# Altium schematic symbol library MyCompLib.SchLib: 229 symbols (part 2 of 2)
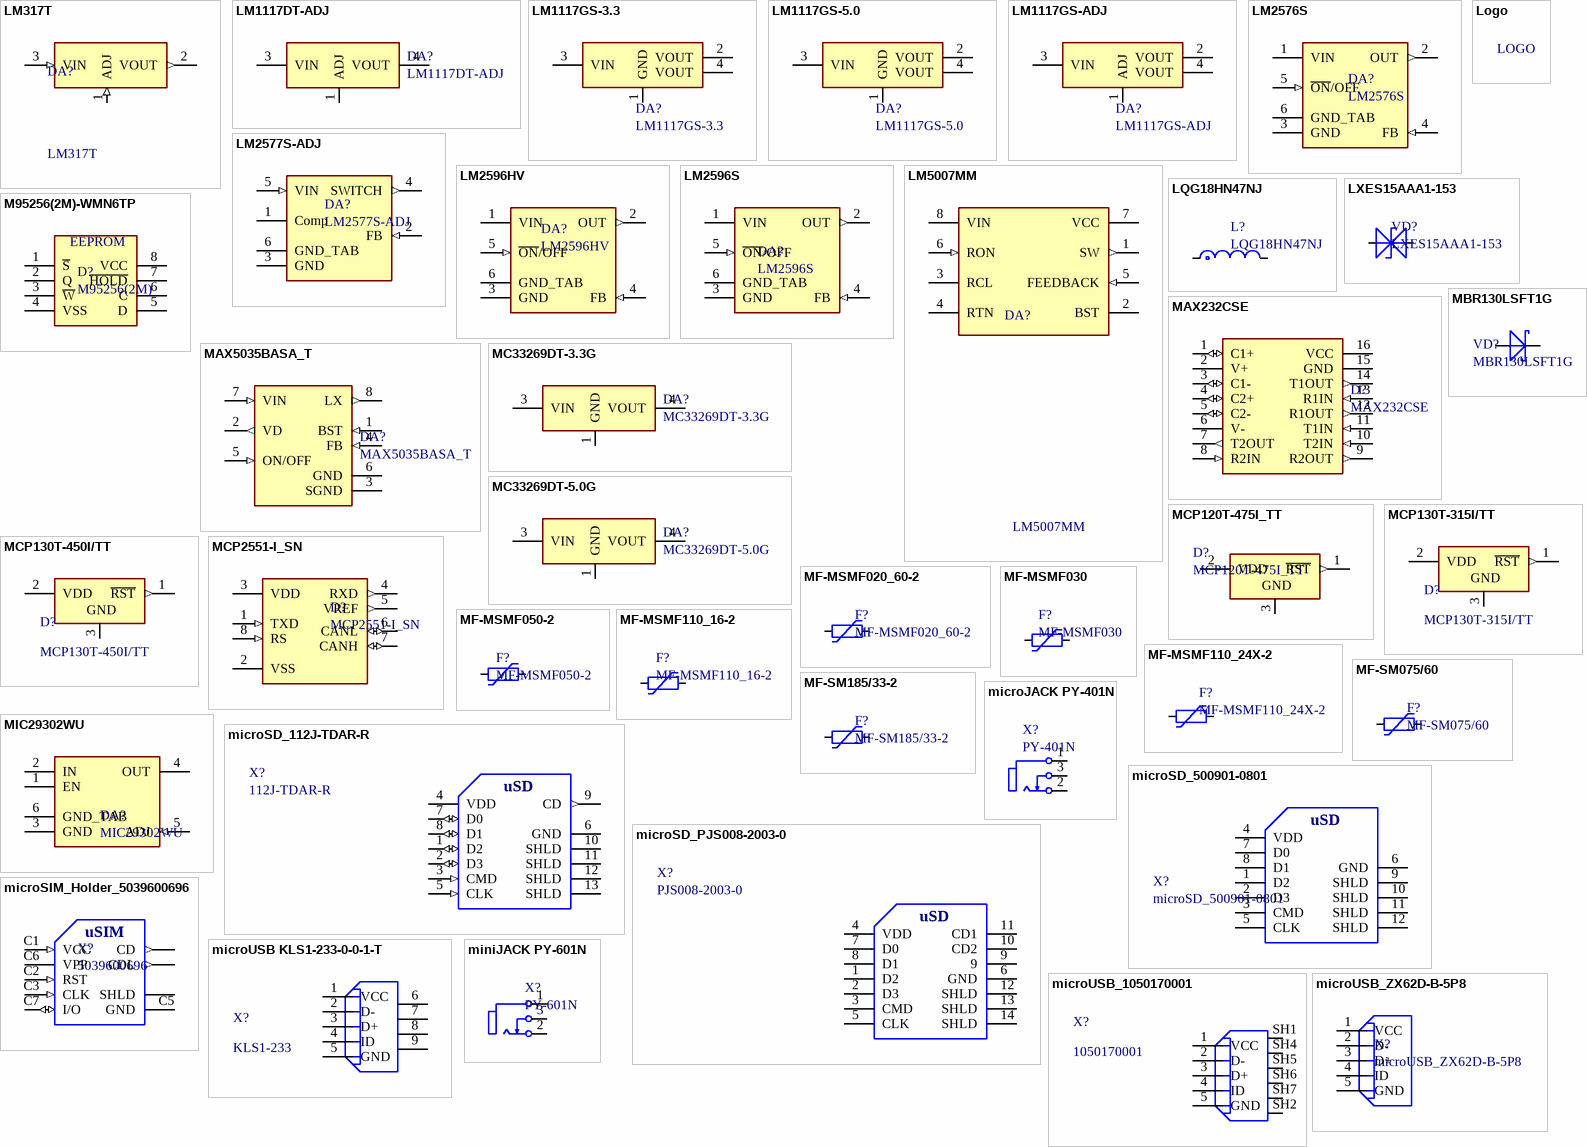
[diagram p6: symbols LM317T to miniJACK PY-601N]

## MIC29302WU
designator DA?
3A Fast Response LDO Regulator / Operating Input Voltage Range: 3V to 16V / 1.24V to 15V Adjustable Output Voltage; ComponentLink1Description: elitan; ComponentLink1URL: https://www.elitan.ru/price/item637427; ComponentLink2Description: chipdip; ComponentLink2URL: https://www.chipdip.ru/product0/8000649332; ComponentLink3Description: electronshik; ComponentLink3URL: https://www.electronshik.ru/item/MCRCH/MIC29302WU
footprint TO263-5 (D2PAK)
footprint TO263-5 - heatsink (D2PAK)
pins: 1 EN (power), 2 IN (power), 3 GND, 4 OUT (power), 5 ADJ (in), 6 GND_TAB

## microJACK PY-401N
designator X?, comment PY-401N
Гнездо моно 2.5мм; ComponentLink1Description: elitan; ComponentLink1URL: https://www.elitan.ru/price/index.php?find=PY-401N&delay=-1&mfg=all&seenform=y; ComponentLink2Description: chipdip; ComponentLink2URL: https://www.chipdip.ru/product/py-401n
footprint PY-401N (2.5mm mono jack)
footprint PY-401N - compact (2.5mm mono jack)
pins: 1, 2, 3

## microSD_112J-TDAR-R
designator X?, comment 112J-TDAR-R
Разъем: для карт памяти; SD Micro; push-push; SMT; позолота; Manufacturer_Name: ATTEND; Datasheet Link: https://sds.compel.ru/item-pdf/04106748b1d2c9285eaa335c34b51c16/ps/attend~112j-tdar-r.pdf; Height: 1mm; Manufacturer_Part_Number: 112J-TDAR-R; ComponentLink1Description: chipdir; ComponentLink1URL: https://www.chipdip.ru/product0/8002703228; ComponentLink2Description: elitan; ComponentLink2URL: https://www.elitan.ru/price/item10898530; ComponentLink3Description: pdf; ComponentLink3URL: https://sds.compel.ru/item-pdf/04106748b1d2c9285eaa335c34b51c16/ps/attend~112j-tdar-r.pdf
footprint 112JTDARR
pins: 1 D2 (io), 2 D3 (io), 3 CMD (in), 4 VDD, 5 CLK (in), 6 GND, 7 D0 (io), 8 D1 (io), 9 CD (out), 10 SHLD, 11 SHLD, 12 SHLD, 13 SHLD
text: uSD

## microSD_500901-0801
designator X?
TransFlash Memory Card,1.1mm hinge type TransFlash Memory Card,1.1mm hinge type
footprint 5009001-0801
pins: 1 D2, 2 D3, 3 CMD, 4 VDD, 5 CLK, 6 GND, 7 D0, 8 D1, 9 SHLD, 10 SHLD, 11 SHLD, 12 SHLD
text: uSD

## microSD_PJS008-2003-0
designator X?, comment PJS008-2003-0
Memory Card Connectors MicroSD Card Conn Revrs Mnt Push-Push
footprint PSJ008-2003-0
pins: 1 D2, 2 D3, 3 CMD, 4 VDD, 5 CLK, 6 GND, 7 D0, 8 D1, 9, 10 CD2, 11 CD1, 12 SHLD, 13 SHLD, 14 SHLD
text: uSD

## microSIM_Holder_5039600696
designator X?, comment 5039600696
Соединители для карт памяти 1mm microSIM Push Push SMT; ComponentLink1Description: elitan; ComponentLink1URL: https://www.elitan.ru/price/item12310026
footprint MOLEX_uSIM_5039600696
pins: C1 VCC (in), C2 RST (in), C3 CLK (in), C5 GND, C6 VPP, C7 I/O (io), CD (out) "Detect switch", CDL (out), SHLD
text: uSIM

## microUSB KLS1-233-0-0-1-T
designator X?, comment KLS1-233
Micro USB 5S-B connector
footprint KLS1233
pins: 1 VCC (power), 2 D-, 3 D+, 4 ID, 5 GND (power), 6 SHIELD, 7 SHIELD, 8 SHIELD, 9 SHIELD

## microUSB_1050170001
designator X?, comment 1050170001
USB - micro B USB 2.0 Receptacle Connector 5 Position Surface Mount, Right Angle; Through Hole; MF: Molex; Digi-Key_Purchase_URL: https://www.digikey.com/product-detail/en/molex/1050170001/WM1399CT-ND/2350885?utm_source=snapeda&utm_medium=aggregator&utm_campaign=symbol; Digi-Key_Part_Number: WM1399CT-ND; Package: None; SnapEDA_Link: https://www.snapeda.com/parts/1050170001/Molex/view-part/2755530/?ref=snap; MP: 1050170001; Value: *; ComponentLink1Description: elitan; ComponentLink1URL: https://www.elitan.ru/price/item5116026; ComponentLink2Description: chipdip; ComponentLink2URL: https://www.chipdip.ru/product/105017-0001-molex?utm_source=google&utm_medium=cpc&position_type={position_type}|k50id|pla-293946777986|cid|11945324864|aid|488785225626|gid|115765259517&utm_campaign=G_tovarnieobjavlenija&utm_content=text1_ga&utm_term=
footprint MOLEX_1050170001
footprint MOLEX_1050170001 - compact
pins: 1 VCC (power), 2 D-, 3 D+, 4 ID, 5 GND (power), SH1 SHIELD, SH2 SHIELD, SH4 SHIELD, SH5 SHIELD, SH6 SHIELD, SH7 SHIELD

## microUSB_ZX62D-B-5P8
designator X?
SMD+DIP Micro USB; MICRO-B-SMD
footprint ZX62D-8-5P8
pins: 1 VCC (power), 2 D-, 3 D+, 4 ID, 5 GND (power)

## miniJACK PY-601N
designator X?, comment PY-601N
Аудио гнездо (М) 3.5мм; ComponentLink1Description: chipdip; ComponentLink1URL: https://www.chipdip.ru/product/py-601n?from=suggest_product; ComponentLink2Description: elitan; ComponentLink2URL: https://www.elitan.ru/price/index.php?find=PY-601N&delay=-1&mfg=all&seenform=y
footprint PY-601N (miniJACK 3.5mm)
footprint PY-601N - compact (miniJACK 3.5mm)
pins: 1, 2, 3

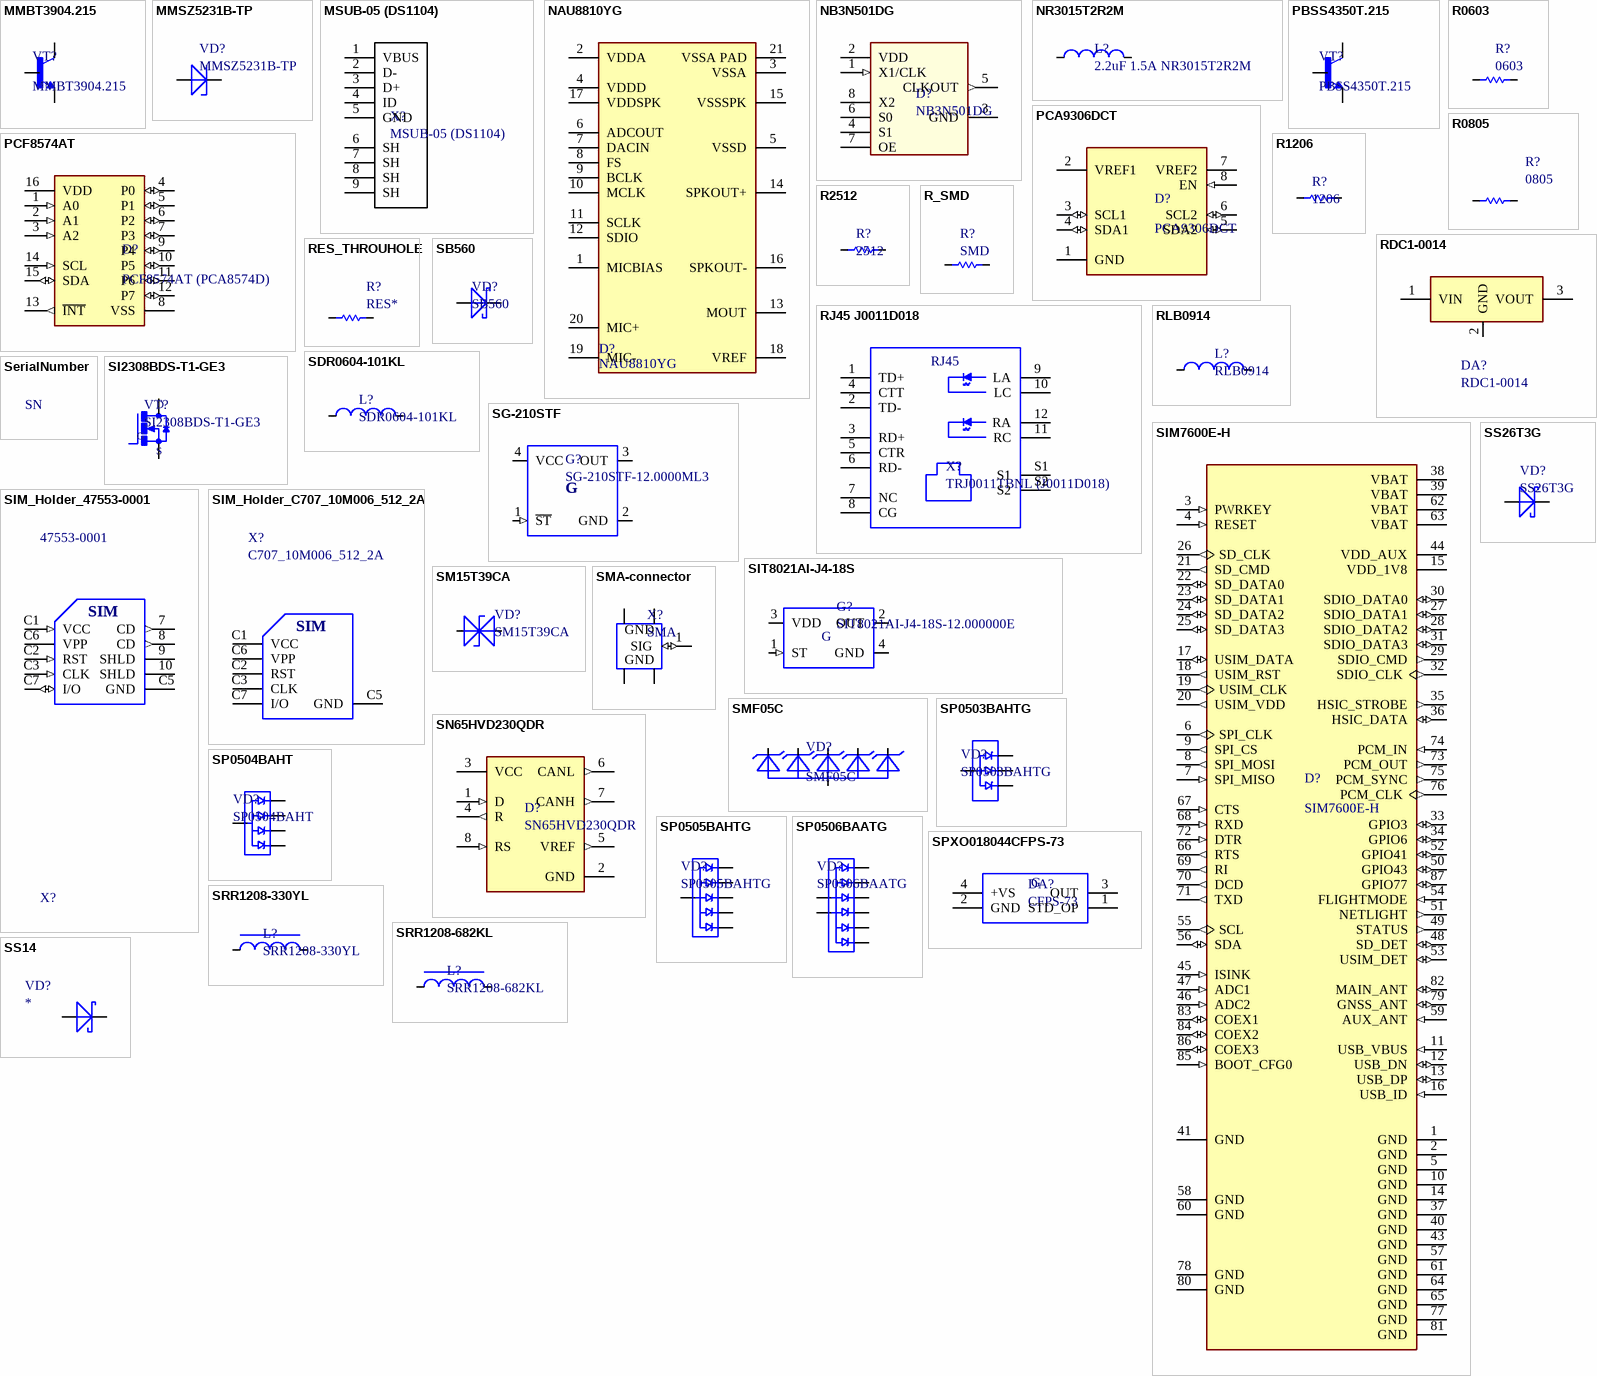
[diagram p4: symbols MMBT3904.215 to SS26T3G]

## MMBT3904.215
designator VT?
Транзистор NPN 40В 0.2А [SOT-23-3]
footprint SOT23
pins: B, C, E

## MMSZ5231B-TP
designator VD?
Стабилитрон 5.1В, 5%, 0.5Вт, [SOD-123]; ComponentLink1Description: chipdip; ComponentLink1URL: https://www.chipdip.ru/product/mmsz5231b-tp?from=suggest_product; ComponentLink2Description: elitan; ComponentLink2URL: https://www.elitan.ru/price/item685173
footprint SOD-123_3716X135N
pins: A POS, C NEG

## MSUB-05 (DS1104)
designator X?
Conn Mini USB 2.0 Type B RCP 5 POS 0.8mm Solder RA SMD 5 Terminal 1 Port Tray
footprint MUSB-05-S-B-SM
pins: 1 VBUS, 2 D-, 3 D+, 4 ID, 5 GND, 6 SH, 7 SH, 8 SH, 9 SH

## NAU8810YG
designator D?
AUDIO CODEC MONO 20QFN; Manufacturer: Nuvoton Technology Corporation; Voltage: 3.6V; helpURL: https://upverter.com/upn/revision/eec1ccdac07fe113/; ComponentLink2Description: Datasheet; Temperature: -40°C to +85°C; Package: QFN20; Supplier 2: Mouser; Supplier 1: Digi-Key; ComponentLink1URL: https://upverter.com/upn/revision/eec1ccdac07fe113/; Supplier Part Number 1: NAU8810YG-ND; ComponentLink1Description: Upverter; ComponentLink2URL: http://www.nuvoton.com/hq/resource-download.jsp?tp_GUID=DA00-NAU8810.1; RoHS: TRUE; Ipc Land Pattern Name: QFN50P400X400X75-20; Temperature Range High: +85°C; Digikey Description: IC AUDIO CODEC MONO 20QFN; Digikey Part Number: NAU8810YG-ND; Lead Free: yes; Temperature Range Low: -40°C; ComponentLink3Description: elitan; ComponentLink3URL: https://www.elitan.ru/price/index.php?find=NAU8810YG&delay=-1&mfg=all&seenform=y
footprint NAU8810YG
pins: 1 MICBIAS, 2 VDDA, 3 VSSA, 4 VDDD, 5 VSSD, 6 ADCOUT, 7 DACIN, 8 FS, 9 BCLK, 10 MCLK, 11 SCLK, 12 SDIO, 13 MOUT, 14 SPKOUT+, 15 VSSSPK, 16 SPKOUT-, 17 VDDSPK, 18 VREF, 19 MIC-, 20 MIC+, 21 VSSA PAD

## NB3N501DG
designator D?
PLL Clock Multiplier Single 8-Pin SOIC 3 V ~ 5.25 V; ComponentLink1Description: elitan; ComponentLink1URL: https://www.elitan.ru/price/item9787428; ComponentLink2Description: electronshik; ComponentLink2URL: https://www.electronshik.ru/item/ONS/NB3N501DG
footprint SOIC8 (SO-8)
pins: 1 X1/CLK (in), 2 VDD, 3 GND, 4 S1 (power), 5 CLKOUT (out), 6 S0, 7 OE, 8 X2 (power)

## NR3015T2R2M
designator L?, comment 2.2uF 1.5A NR3015T2R2M
Катушки постоянной индуктивности 3015 2.2uH 72mOhms +/-20% 1480mA LwPrfl
footprint NR3015
pins: 1, 2

## PBSS4350T.215
designator VT?
Транзистор NPN 50В 2А 0.48Вт [SOT-23-3]; ComponentLink1Description: chipdip; ComponentLink1URL: https://www.chipdip.ru/product/pbss4350t.215; ComponentLink2Description: elitan; ComponentLink2URL: https://www.elitan.ru/price/item449708; ComponentLink3Description: electronshik; ComponentLink3URL: https://www.electronshik.ru/item/NEX-NXP/PBSS4350T.215
footprint SOT23
footprint SOT23-3
pins: 1 B, 2 E, 3 C

## PCA9306DCT
designator D?
Voltage Level Translator Bidirectional 1 Circuit 2 Channel SM8 _SSOP_; MF: Texas Instruments; Value: *; MP: PCA9306DCT; Package: LSSOP-8 Texas Instruments; Price: None; Availability: Unavailable; SnapEDA_Link: https://www.snapeda.com/parts/PCA9306DCT/Texas%20Instruments/view-part/1232375/?ref=snap; ComponentLink1Description: elitan; ComponentLink1URL: https://www.elitan.ru/price/item578140; ComponentLink2Description: chipdip; ComponentLink2URL: https://www.chipdip.ru/product/pca9306dctr
footprint SOP65P400X130-8N
pins: 1 GND, 2 VREF1 (power), 3 SCL1 (io), 4 SDA1 (io), 5 SDA2 (io), 6 SCL2 (io), 7 VREF2 (power), 8 EN (in)

## PCF8574AT
designator D?, comment PCF8574AT (PCA8574D)
8-bit I/O expander for I2C bus with interrupt / PCF8574(A)T/3 - 100kHz version / PCA8574(A)D - 400kHz version; MF: NXP Semiconductors; Value: *; SnapEDA_Link: https://www.snapeda.com/parts/PCF8574AT/NXP%20Semiconductors/view-part/4220694/?ref=snap; Price: None; Availability: Unavailable; Package: None; MP: PCF8574AT; ComponentLink1Description: elitan; ComponentLink1URL: https://www.elitan.ru/price/item981552; ComponentLink2Description: elitan - pca8574D; ComponentLink2URL: https://www.elitan.ru/price/item537810; ComponentLink3Description: el-pca; ComponentLink3URL: https://www.electronshik.ru/item/NXP/PCA8574D.518; ComponentLink4Description: electronshik; ComponentLink4URL: https://www.electronshik.ru/item/NXP/PCF8574T%3A%3A3.518; ComponentLink5Description: el; ComponentLink5URL: https://www.electronshik.ru/item/NXP/PCF8574AT%3A%3A3.518
footprint SOIC127P1032X265-16N
pins: 1 A0 (in), 2 A1 (in), 3 A2 (in), 4 P0 (io), 5 P1 (io), 6 P2 (io), 7 P3 (io), 8 VSS, 9 P4 (io), 10 P5 (io), 11 P6 (io), 12 P7 (io), 13 ~{INT} (out), 14 SCL (in), 15 SDA (io), 16 VDD (power)

## R0603
designator R?, comment 0603
SMD Res 0603
footprint R_SMD0603
pins: 1 CCW, 2 CW

## R0805
designator R?, comment 0805
SMD Res 0805
footprint R_SMD0805
pins: 1 CCW, 2 CW

## R1206
designator R?, comment 1206
SMD Res 1206
footprint R_SMD1206
pins: 1 CCW, 2 CW

## R2512
designator R?, comment 2512
SMD Res 2512
footprint R_SMD2512
pins: 1 CCW, 2 CW

## R_SMD
designator R?, comment SMD
SMD Resistor
footprint R_SMD0603
footprint R_SMD0402
footprint R_SMD0805
footprint R_SMD1206
footprint R_SMD1812
footprint R_SMD2512
footprint R_SMD1210 (0.5W)
pins: 1 CCW, 2 CW

## RDC1-0014
designator DA?
Встраиваемый DC/DC преобразователь 60В 3А
footprint RDC1-0014 (DC-DC BUCK 60V)
pins: 1 VIN, 2 GND, 3 VOUT

## RES_THROUHOLE
designator R?, comment RES*
Throu hole resistor
footprint THROU_HOLE2.54
pins: 1 CCW, 2 CW

## RJ45 J0011D018
designator X?, comment TRJ0011TBNL (J0011D018)
Conn RJ-45 F 8 POS 2.54mm Solder RA Thru-Hole 12 Terminal 1 Port Cat 5/Cat 6
footprint J0011D018
pins: 1 TD+, 2 TD-, 3 RD+, 4 CTT, 5 CTR, 6 RD-, 7 NC, 8 CG, 9 LA, 10 LC, 11 RC, 12 RA, S1, S2
text: RJ45

## RLB0914
designator L?
Радиальные выводные индуктивности / Диапазон рабочих температур –20 °С… +80 °С. / Рост температуры в процессе эксплуатации, не более 20 °С. / Диапазон индуктивностей 1 - 82000 мкГ
footprint RLB0914
pins: 1, 2

## SB560
designator VD?
Диод Шоттки 5A 60V [DO-201AD]
footprint DO-201AD
footprint DO-201AD_short
pins: 1 POS, 2 NEG

## SDR0604-101KL
designator L?
Bourns SDR0604 Series Wire-wound SMD Inductor with a Ferrite Core, 100 H 10% 0.68A Idc Q:20
footprint SDR0604
pins: 1, 2

## SerialNumber
designator N?, comment SN  (value not drawn)
Board Serial Number Placement
footprint KZTA_SN (Serial Number Placement)

## SG-210STF
designator G?, comment SG-210STF-12.0000ML3
Oscillator XO 12MHz ±50ppm 15pF CMOS 55% 1.8V; ComponentLink1Description: elitan; ComponentLink1URL: https://www.elitan.ru/price/item16272023
footprint SG210STF120000ML3
pins: 1 ~{ST} (in), 2 GND, 3 OUT, 4 VCC
text: G

## SI2308BDS-T1-GE3
designator VT?
MOSFET, N-канал 60В 1.9А [SOT-23]; ComponentLink1Description: chipdip; ComponentLink1URL: https://www.chipdip.ru/product/si2308bds-t1-ge3-vishay; ComponentLink2Description: electronshik; ComponentLink2URL: https://www.electronshik.ru/item/VISHAY/SI2308BDS-T1-GE3; ComponentLink3Description: elitan; ComponentLink3URL: https://www.elitan.ru/price/item668096
footprint SOT23
footprint SOT23-3
pins: 1 G, 2 S, 3 D

## SIM7600E-H
designator D?
Multi-Band LTE-TDD/LTE-FDD/HSPA+ and GSM/GPRS/EDGE module; MF: Simcom; MP: SIM7600E-H; Availability: Unavailable; Package: None; Value: *; Price: None; SnapEDA_Link: https://www.snapeda.com/parts/SIM7600E-H/SIMcom%20Wireless%20solutions%20Co.%2CLtd/view-part/2758290/?ref=snap; ComponentLink1Description: mt-systems; ComponentLink1URL: http://www.mt-system.ru/SIMCom/SIM7600E-H
footprint IC_SIM7600E-H
pins: 1 GND (power), 2 GND (power), 3 PWRKEY (in), 4 RESET (in), 5 GND (power), 6 SPI_CLK (out), 7 SPI_MISO (in), 8 SPI_MOSI (out), 9 SPI_CS (out), 10 GND (power), 11 USB_VBUS (in), 12 USB_DN (io), 13 USB_DP (io), 14 GND (power), 15 VDD_1V8 (power), 16 USB_ID (in), 17 USIM_DATA (io), 18 USIM_RST (out), 19 USIM_CLK (out), 20 USIM_VDD (out), 21 SD_CMD (out), 22 SD_DATA0 (io), 23 SD_DATA1 (io), 24 SD_DATA2 (io), 25 SD_DATA3 (io), 26 SD_CLK (out), 27 SDIO_DATA1 (io), 28 SDIO_DATA2 (io), 29 SDIO_CMD (out), 30 SDIO_DATA0 (io), 31 SDIO_DATA3 (io), 32 SDIO_CLK (out), 33 GPIO3 (io), 34 GPIO6 (io), 35 HSIC_STROBE (out), 36 HSIC_DATA (io), 37 GND (power), 38 VBAT (power), 39 VBAT (power), 40 GND (power), 41 GND (power), 43 GND (power), 44 VDD_AUX (power), 45 ISINK (in), 46 ADC2 (in), 47 ADC1 (in), 48 SD_DET (io), 49 STATUS (out), 50 GPIO43 (io), 51 NETLIGHT (out), 52 GPIO41 (io), 53 USIM_DET (io), 54 FLIGHTMODE (in), 55 SCL (out), 56 SDA (io), 57 GND (power), 58 GND (power), 59 AUX_ANT (in), 60 GND (power), 61 GND (power), 62 VBAT (power), 63 VBAT (power), 64 GND (power), 65 GND (power), 66 RTS (out), 67 CTS (in), 68 RXD (in), 69 RI (out), 70 DCD (out), 71 TXD (out), 72 DTR (in), 73 PCM_OUT (out), 74 PCM_IN (in), 75 PCM_SYNC (out), 76 PCM_CLK (out), 77 GND (power), 78 GND (power), 79 GNSS_ANT (io), 80 GND (power), 81 GND (power), 82 MAIN_ANT (io), 83 COEX1 (io), 84 COEX2 (io), 85 BOOT_CFG0 (in), 86 COEX3 (io), 87 GPIO77 (io)

## SIM_Holder_47553-0001
designator X?, comment 47553-0001
1.27mm Pitch SIM Card Holder with 2 Detect Pins, 6 Circuits, Push-Push Style, / Housing Height 1.80mm, without Pegs, Lead-Free; ComponentLink1Description: Info; ComponentLink1URL: https://www.molex.com/molex/products/part-detail/memory_card_socket/0475530001; ComponentLink2Description: elitan; ComponentLink2URL: https://www.elitan.ru/price/item5698087; ComponentLink3Description: pdf; ComponentLink3URL: https://www.molex.com/pdm_docs/sd/475530001_sd.pdf
footprint Molex_47553-0001_SIM
pins: 7 CD (out), 8 CD (out), 9 SHLD, 10 SHLD, C1 VCC (in), C2 RST (in), C3 CLK (in), C5 GND, C6 VPP, C7 I/O (io)
text: SIM

## SIM_Holder_C707_10M006_512_2A
designator X?, comment C707_10M006_512_2A
Соединители для карт памяти sim block/2.8H/Wide Solder Tails; Manufacturer_Name: Amphenol MCP; Manufacturer_Part_Number: C707 10M006 512 2A; Datasheet Link: https://static6.arrow.com/aropdfconversion/2b0439812a4dc18aefbbc0c69113f67e39d5f040/cardrsiml.pdf; Height: 2.5mm; ComponentLink1Description: elitan; ComponentLink1URL: https://www.elitan.ru/price/item13360290
footprint C70710M0065122A
pins: C1 VCC, C2 RST, C3 CLK, C5 GND, C6 VPP, C7 I/O
text: SIM

## SIT8021AI-J4-18S
designator G?, comment SIT8021AI-J4-18S-12.000000E
12MHz В±100ppm (Stability) 15pF LVCMOS 55% 1.8V Oscillator MEMS; ComponentLink1Description: elitan; ComponentLink1URL: https://www.elitan.ru/price/item12605258
footprint BGA4N41X100P2X2_84X154X60N
pins: 1 ST (in), 2 OUT, 3 VDD, 4 GND
text: G

## SM15T39CA
designator VD?
TVS Diode Bi-Directional SM15T39CA 69.7V, 1500W, SMC 2-Pin; ComponentLink1Description: chipdip; ComponentLink1URL: https://www.chipdip.ru/product/sm15t39ca?from=suggest_product; ComponentLink2Description: elitan; ComponentLink2URL: https://www.elitan.ru/price/item636974
footprint DO214AB SMC
pins: 1 A, 2 K

## SMA-connector
designator X?, comment SMA
Molex-0731000114 - FEMALE-RA / Molex-0733910060 - FEMALE / L-KLS1-SMA015  - MALE-RA / L-KLS1-SMA006 - FEMALE-RA / L-KLS1-SMA002-B  - FEMALE-RA; ComponentLink1Description: RA-Molex-0731000114; ComponentLink1URL: https://www.elitan.ru/price/item639782; ComponentLink2Description: RA-L-KLS1-SMA015; ComponentLink2URL: https://www.elitan.ru/price/item15217386; ComponentLink3Description: RA - HYR-1141; ComponentLink3URL: https://www.elitan.ru/price/item12599392; ComponentLink4Description: Molex-0733910060; ComponentLink4URL: https://www.elitan.ru/price/item715759; ComponentLink5Description: FEMALE-RA-KLS1-SMA006; ComponentLink5URL: https://www.elitan.ru/price/item18597090; ComponentLink6Description: FEMALE-RA - L-KLS1-SMA002-B; ComponentLink6URL: https://www.platan.ru/cgi-bin/qwery.pl/id=356964102; ComponentLink7Description: FEMALE-RA - L-KLS1-SMA002; ComponentLink7URL: https://www.elitan.ru/price/item9893558
footprint SMA-FEMALE-RA - L-KLS1-SMA002-B (SMA connector)
footprint SMA-FEMALE-RA-Molex-0731000114 (SMA connector)
footprint SMA-FEMALE_Molex -73391-0060 (SMA connector)
footprint SMA-MALE (SMA connector)
footprint SMA-MALE-RA-L-KLS1-SMA015 (SMA connector)
pins: 1 SIG (io), G GND (power), G GND (power), G GND (power), G GND (power)

## SMF05C
designator VD?
12.5V Clamp 8A _8/20µs_ Ipp Tvs Diode Surface Mount SC-88/SC70-6/SOT-363; MF: ON Semiconductor; Availability: Unavailable; Price: None; Package: SOT-363 ON Semiconductor; Value: *; SnapEDA_Link: https://www.snapeda.com/parts/SMF05C/ON%20Semiconductor/view-part/2782704/?ref=snap; MP: SMF05C; ComponentLink1Description: elitan; ComponentLink1URL: https://www.elitan.ru/price/item10155001; ComponentLink2Description: chipdip; ComponentLink2URL: https://www.chipdip.ru/product/smf05ct1g?from=suggest_product
footprint SMF05C
pins: 1 C1, 2 A, 3 C2, 4 C3, 5 C4, 6 C5

## SN65HVD230QDR
designator D?
3.3-V CAN Transceiver with Standby Mode 8-SOIC -40 to 125
footprint SOIC8 (SO-8)
pins: 1 D (in), 2 GND (power), 3 VCC (power), 4 R (out), 5 VREF (out), 6 CANL (out), 7 CANH (out), 8 RS (in)

## SP0503BAHTG
designator VD?
TVS Diode-3 Рабочее напряжение 5.5 В / Максимальное напряжение фиксации 8.5 в; ComponentLink1Description: chipdip; ComponentLink1URL: https://www.chipdip.ru/product/sp0503bahtg; ComponentLink2Description: elitan; ComponentLink2URL: https://www.elitan.ru/price/item393293
footprint SP0503BAHTG
pins: 1 GND, 2 A, 3 B, 4 C

## SP0504BAHT
designator VD?
TVS Diode-4 Рабочее напряжение 5.5 V / Напряжение фиксации 7.8 V; ComponentLink1Description: elitan; ComponentLink1URL: https://www.elitan.ru/price/item638468; ComponentLink2Description: chipdip; ComponentLink2URL: https://www.chipdip.ru/product0/8001776844
footprint SOT23-5
pins: 1, 2 GND, 3 C, 4 B, 5

## SP0505BAHTG
designator VD?
TVS Diode-5 5.5V(R) 9. 9.2V-CLAMP1.2A 5-CH; ComponentLink1Description: chipdip; ComponentLink1URL: https://www.chipdip.ru/product0/8001790471; ComponentLink2Description: elitan; ComponentLink2URL: https://www.elitan.ru/price/item559578
footprint SOT23-6-S
pins: 1 A, 2 GND, 3 C, 4 B, 5 C, 6 D

## SP0506BAATG
designator VD?
TVS Diode-6 Clamping Voltage Vc Max:8V; MSOP8, Operating Voltage:5.5V;; ComponentLink1Description: elitan; ComponentLink1URL: https://www.elitan.ru/price/item559579; ComponentLink2Description: chipdip; ComponentLink2URL: https://www.chipdip.ru/product0/8004936449
footprint SOP65P490X110-8N
pins: 1 GND, 2 A, 3 C, 4 B, 5 D, 6 B, 7 D, 8 GND

## SPXO018044CFPS-73
designator DA?, comment CFPS-73
50 MHZ - 3.3V Generator; ComponentLink1Description: elitan; ComponentLink1URL: https://www.elitan.ru/price/item13019539
footprint CFPS-73
pins: 1 STD_OP, 2 GND, 3 OUT, 4 +VS
text: G

## SRR1208-330YL
designator L?
SMD индуктивность проволочная, на ферритовом сердечнике, экранированная 33uH 15% 1KHz 23Q-Factor Ferrite 2.8A 62mOhm; ComponentLink1Description: 33uH-chipdip; ComponentLink1URL: https://www.chipdip.ru/product/srr1208-330yl?from=suggest_product; ComponentLink2Description: 33uH-elitan; ComponentLink2URL: https://www.elitan.ru/price/item319349; ComponentLink3Description: 100uH-elitan; ComponentLink3URL: https://www.elitan.ru/price/item319348; ComponentLink4Description: 100uH-chipdip; ComponentLink4URL: https://www.chipdip.ru/product/srr1208-101yl; ComponentLink5Description: 22uH-3.5A-elitan; ComponentLink5URL: https://www.elitan.ru/price/item437369
footprint SRR1208
pins: 1, 2

## SRR1208-682KL
designator L?
Fixed Inductors 6800uH 10% SMD 1208
footprint SRR1208
pins: 1, 2

## SS14
designator VD?
Диод Шоттки 1A 40В [SMA / DO-214AC]; Manufacturer_Name: ON Semiconductor; Manufacturer_Part_Number: SS14; Datasheet Link: http://www.onsemi.com/pub/Collateral/SS19-D.pdf; Height: 2.7mm; Arrow Part Number: SS14; Arrow Price/Stock: https://www.arrow.com/en/products/ss14/on-semiconductor; Mouser Part Number: 512-SS14; Mouser Price/Stock: https://www.mouser.co.uk/ProductDetail/ON-Semiconductor-Fairchild/SS14?qs=mVVXn4M53U%252BvrBaFv5vr4w%3D%3D; ComponentLink1Description: chipdip; ComponentLink1URL: https://www.chipdip.ru/product/ss14?from=suggest_product
footprint DO-214AC/SMA
pins: 1 NEG, 2 POS

## SS26T3G
designator VD?
Диод Шоттки 2А 60В [SMB / DO-214AA]; ComponentLink1Description: chipdip; ComponentLink1URL: https://www.chipdip.ru/product/ss26t3g?from=suggest_product; ComponentLink2Description: elitan; ComponentLink2URL: https://www.elitan.ru/price/item421861
footprint DO-214AA
pins: 1 NEG, 2 POS

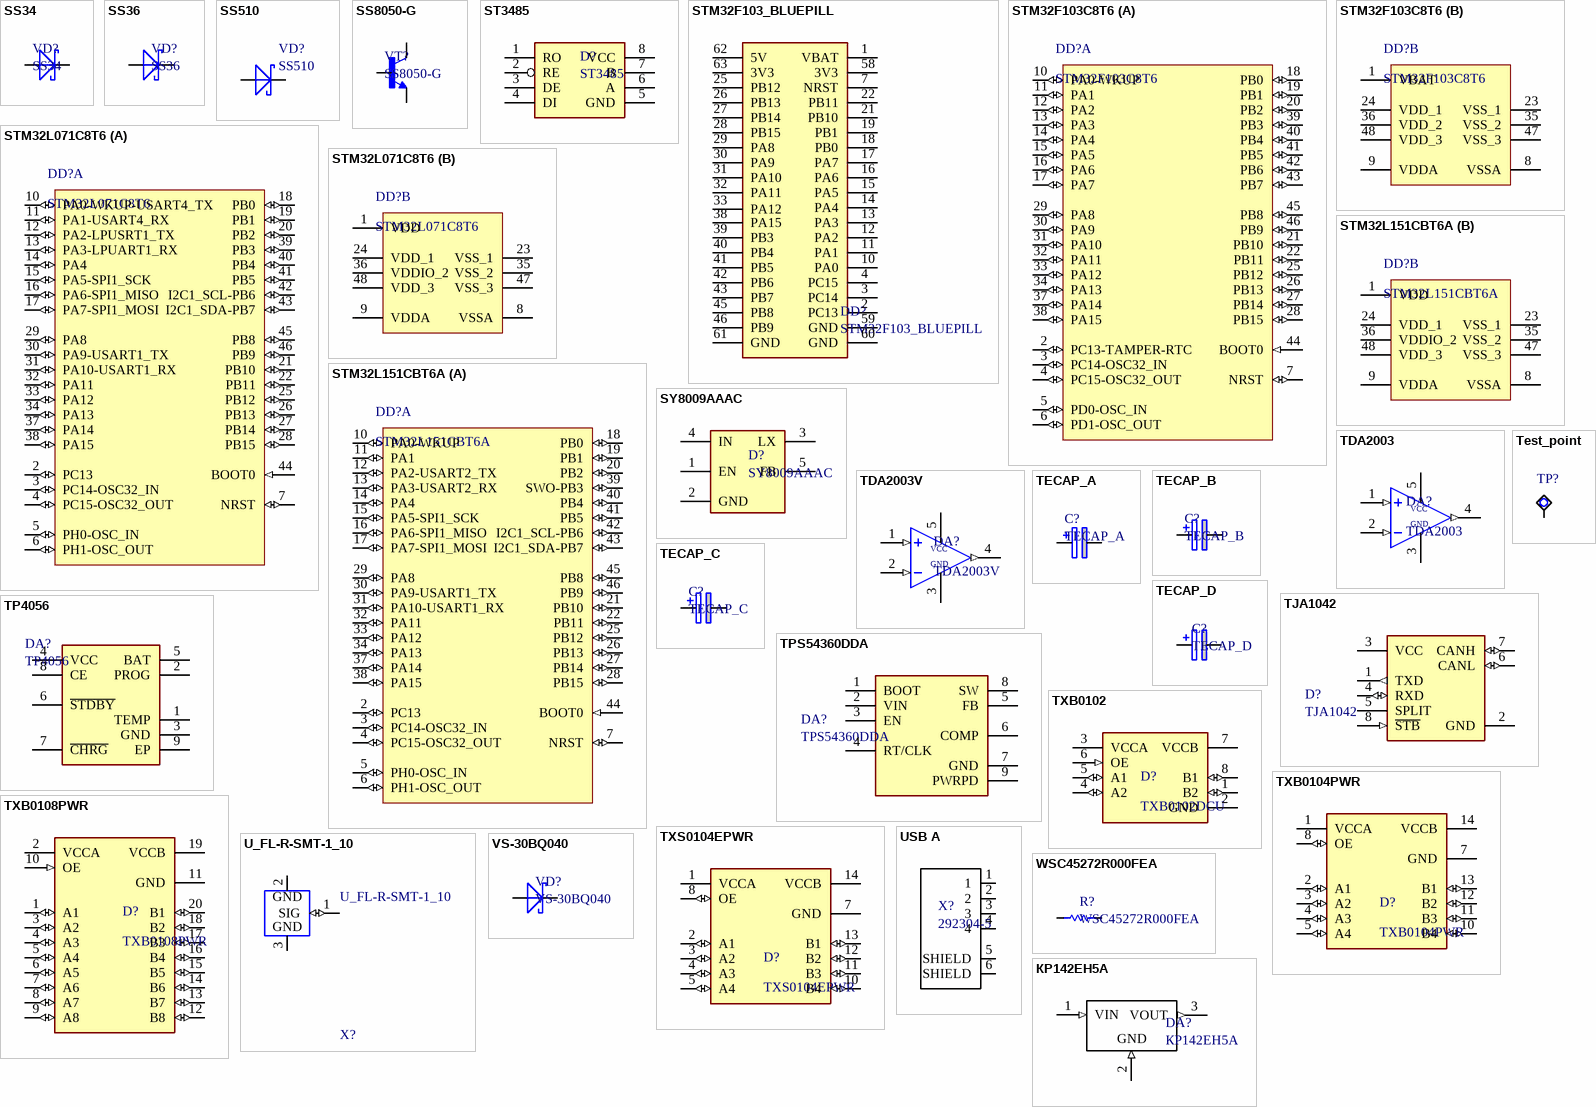
[diagram p5: symbols SS34 to КР142ЕН5А]

## SS34
designator VD?
Schottky; DO-214AB; 3.0A IF; 0.75V; 40V; 100A IFRM; 10000V/us; 1000pF; ComponentLink1Description: chipdip; ComponentLink1URL: https://www.chipdip.ru/product/ss34-5; ComponentLink2Description: elitan; ComponentLink2URL: https://www.elitan.ru/price/item9505516
footprint DO214AB SMC
pins: 1 POS, 2 NEG

## SS36
designator VD?
Schottky; DO-214AB; 3.0A IF; 0.75V; 60V; 100A IFRM; 10000V/us; 1000pF; ComponentLink1Description: elitan; ComponentLink1URL: https://www.elitan.ru/price/item15648528; ComponentLink2Description: chipdip; ComponentLink2URL: https://www.chipdip.ru/product/ss36-e3-57t-2?from=suggest_product
footprint DO214AB SMC
pins: 1 POS, 2 NEG

## SS510
designator VD?
Диод Шоттки 5A 100V (SMC); ComponentLink1Description: chipdip; ComponentLink1URL: https://www.chipdip.ru/product0/8002382677?from=suggest_product; ComponentLink2Description: elitan; ComponentLink2URL: https://www.elitan.ru/price/item24826922
footprint SMC
footprint SMAF (Doide)
footprint SMC + SMAF
pins: A POS, C NEG

## SS8050-G
designator VT?
NPN TRANSISTOR 1.5A 40V [ SOT23 ]; ComponentLink1Description: elitan; ComponentLink1URL: https://www.elitan.ru/price/item13521125
footprint SOT23
footprint SOT23-3
pins: 1 B, 2 E, 3 C

## ST3485
designator D?
RS-485 transceiver 3.3 V
footprint SOIC8 (SO-8)
pins: 1 RO, 2 RE, 3 DE, 4 DI (power), 5 GND, 6 A, 7 B, 8 VCC (power)

## STM32F103_BLUEPILL
designator DD?
footprint STM32F103_BLUEPILL
pins: 1 VBAT, 2 PC13, 3 PC14, 4 PC15, 7 NRST, 10 PA0, 11 PA1, 12 PA2, 13 PA3, 14 PA4, 15 PA5, 16 PA6, 17 PA7, 18 PB0, 19 PB1, 21 PB10, 22 PB11, 25 PB12, 26 PB13, 27 PB14, 28 PB15, 29 PA8, 30 PA9, 31 PA10, 32 PA11, 33 PA12, 38 PA15, 39 PB3, 40 PB4, 41 PB5, 42 PB6, 43 PB7, 45 PB8, 46 PB9, 58 3V3, 59 GND, 60 GND, 61 GND, 62 5V, 63 3V3

## STM32F103C8T6
designator DD?
ARM Cortex-M3 32-bit MCU, 64 KB Flash, 20 KB Internal RAM, 37 I/Os, 48-pin LQFP, -40 to 85 degC, Tray; A/D Converter: 2x12-bit (10 Channel); FLASH Size (Prog) (kB): 64; I/Os (High Current): 37; Internal RAM Size (kB): 20; Operating Frequency(F) (Processor speed) (MHz): 72; Supply Voltage(Vcc) min (V): 2; DatasheetVersion: Rev. 16; PackageVersion: Rev. 6, 06/2013; PackageReference: LQFP48; PackageDescription: 48-Pin Low Profile Quad Flat Package, 7 x 7 mm Body, 0.5 mm Pitch; Supplier 1: Digi-Key; Supplier Part Number 1: 497-6063-ND; Supplier 2: Farnell; Supplier Part Number 2: 1447637; Supplier 3: Newark; Supplier Part Number 3: 59M2182; Supplier 4: Newark; Supplier Part Number 4: 57P1222; Supplier 5: Mouser; Supplier Part Number 5: 511-STM32F103C8T6; Core: ARM Cortex-M3; Packing: Tray; Mounting Technology: Surface Mount; PartNumber: STM32F103C8T6; ComponentLink1Description: Manufacturer URL; ComponentLink1URL: http://www.st.com/web/en/home.html; ComponentLink2Description: Datasheet; ComponentLink2URL: http://www.st.com/st-web-ui/static/active/en/resource/technical/document/datasheet/CD00161566.pdf; ComponentLink3Description: Package Specification; ComponentLink3URL: http://www.st.com/st-web-ui/static/active/en/resource/technical/document/datasheet/DM00058181.pdf
footprint LQFP48_L (QFP, 48-Leads, Body 7x7mm, Pitch 0.5mm, IPC High Density)
footprint LQFP48_M (QFP, 48-Leads, Body 7x7mm, Pitch 0.5mm, IPC Low Density)
footprint LQFP48_N (QFP, 48-Leads, Body 7x7mm, Pitch 0.5mm, IPC Medium Density)
part A pins: 2 PC13-TAMPER-RTC (io) "PC13-TAMPER-RTC/PC13/TAMPER-RTC", 3 PC14-OSC32_IN (io) "PC14-OSC32_IN/PC14/OSC32_IN", 4 PC15-OSC32_OUT (io) "PC15-OSC32_OUT/PC15/OSC32_OUT", 5 PD0-OSC_IN (io) "PD0/OSC_IN", 6 PD1-OSC_OUT (io) "PD1/OSC_OUT", 7 NRST (io), 10 PA0-WKUP (io) "PA0-WKUP/PA0/WKUP/USART2_CTS/ADC12_IN0/TIM2_CH1_ETR", 11 PA1 (io) "PA1/USART2_RTS/ADC12_IN1/TIM2_CH2", 12 PA2 (io) "PA2/USART2_TX/ADC12_IN2/TIM2_CH3", 13 PA3 (io) "PA3/USART2_RX/ADC12_IN3/TIM2_CH4", 14 PA4 (io) "PA4/SPI1_NSS/USART2_CK/ADC12_IN4", 15 PA5 (io) "PA5/SPI1_SCK/ADC12_IN5", 16 PA6 (io) "PA6/SPI1_MISO/ADC12_IN6/TIM3_CH1/TIM1_BKIN", 17 PA7 (io) "PA7/SPI1_MOSI/ADC12_IN7/TIM3_CH2/TIM1_CH1N", 18 PB0 (io) "PB0/ADC12_IN8/TIM3_CH3/TIM1_CH2N", 19 PB1 (io) "PB1/ADC12_IN9/TIM3_CH4/TIM1_CH3N", 20 PB2 (io) "PB2/BOOT1", 21 PB10 (io) "PB10/I2C2_SCL/USART3_TX/TIM2_CH3", 22 PB11 (io) "PB11/I2C2_SDA/USART3_RX/TIM2_CH4", 25 PB12 (io) "PB12/SPI2_NSS/I2C2_SMBAl/USART3_CK/TIM1_BKIN", 26 PB13 (io) "PB13/SPI2_SCK/USART3_CTS/TIM1_CH1N", 27 PB14 (io) "PB14/SPI2_MISO/USART3_RTS/TIM1_CH2N", 28 PB15 (io) "PB15/SPI2_MOSI/TIM1_CH3N", 29 PA8 (io) "PA8/USART1_CK/TIM1_CH1/MCO", 30 PA9 (io) "PA9/USART1_TX/TIM1_CH2", 31 PA10 (io) "PA10/USART1_RX/TIM1_CH3", 32 PA11 (io) "PA11/USART1_CTS/CANRX/USBDM/TIM1_CH4", 33 PA12 (io) "PA12/USART1_RTS/CANTX/USBDP/TIM1_ETR", 34 PA13 (io) "PA13/JTMS/SWDIO", 37 PA14 (io) "PA14/JTCK/SWCLK", 38 PA15 (io) "PA15/JTDI/TIM2_CH1_ETR/SPI1_NSS", 39 PB3 (io) "PB3/JTDO/TIM2_CH2/TRACESWO/SPI1_SCK", 40 PB4 (io) "PB4/NJTRST/TIM3_CH1/SPI1_MISO", 41 PB5 (io) "PB5/I2C1_SMBAI/TIM3_CH2/SPI1_MOSI", 42 PB6 (io) "PB6/I2C1_SCL/TIM4_CH1/USART1_TX", 43 PB7 (io) "PB7/I2C1_SDA/TIM4_CH2/USART1_RX", 44 BOOT0 (in), 45 PB8 (io) "PB8/TIM4_CH3/I2C1_SCL/CANRX", 46 PB9 (io) "PB9/TIM4_CH4/I2C1_SDA/CANTX"
part B pins: 1 VBAT (power), 8 VSSA (power), 9 VDDA (power), 23 VSS_1 (power), 24 VDD_1 (power), 35 VSS_2 (power), 36 VDD_2 (power), 47 VSS_3 (power), 48 VDD_3 (power)

## STM32L071C8T6
designator DD?
Analog - STM32L151CBT6A / MCU, 32BIT, 32MHZ, LQFP-48;  ARM Cortex-M0+; 32MHz; Program Memory Size:64KB; RAM Memory Size:20KB; 48Pins; MCU Case Style:LQFP; No. of I/O\'s:37I/O\'s; / Embedded Interface Type:I2C, I2S, SPI, UART, USART; Supply Voltage Min:1.8V; Supply Voltage Max:3.6V;; PartNumber: STM32F103C8T6; A/D Converter: 2x12-bit (10 Channel); Core: ARM Cortex-M3; FLASH Size (Prog) (kB): 64; I/Os (High Current): 37; Internal RAM Size (kB): 20; Operating Frequency(F) (Processor speed) (MHz): 72; Packing: Tray; Supply Voltage(Vcc) min (V): 2; DatasheetVersion: Rev. 16; PackageVersion: Rev. 6, 06/2013; PackageReference: LQFP48; PackageDescription: 48-Pin Low Profile Quad Flat Package, 7 x 7 mm Body, 0.5 mm Pitch; Supplier 1: Digi-Key; Supplier Part Number 1: 497-6063-ND; Supplier 2: Farnell; Supplier Part Number 2: 1447637; Supplier 3: Newark; Supplier Part Number 3: 59M2182; Supplier 4: Newark; Supplier Part Number 4: 57P1222; Supplier 5: Mouser; Supplier Part Number 5: 511-STM32F103C8T6; Mounting Technology: Surface Mount; ComponentLink1Description: elitan; ComponentLink1URL: https://www.elitan.ru/price/item12343379; ComponentLink2Description: chipdip; ComponentLink2URL: https://www.chipdip.ru/product0/8001780702?from=suggest_product
footprint LQFP48_L (QFP, 48-Leads, Body 7x7mm, Pitch 0.5mm, IPC High Density)
footprint LQFP48_M (QFP, 48-Leads, Body 7x7mm, Pitch 0.5mm, IPC Low Density)
footprint LQFP48_N (QFP, 48-Leads, Body 7x7mm, Pitch 0.5mm, IPC Medium Density)
part A pins: 2 PC13 (io) "PC13-TAMPER-RTC/PC13/TAMPER-RTC", 3 PC14-OSC32_IN (io) "PC14-OSC32_IN/PC14/OSC32_IN", 4 PC15-OSC32_OUT (io) "PC15-OSC32_OUT/PC15/OSC32_OUT", 5 PH0-OSC_IN (io) "PD0/OSC_IN", 6 PH1-OSC_OUT (io) "PD1/OSC_OUT", 7 NRST (io), 10 PA0-WKUP-USART4_TX (io) "PA0-WKUP/PA0/WKUP/USART2_CTS/ADC12_IN0/TIM2_CH1_ETR", 11 PA1-USART4_RX (io) "PA1/USART2_RTS/ADC12_IN1/TIM2_CH2", 12 PA2-LPUSRT1_TX (io) "PA2/USART2_TX/ADC12_IN2/TIM2_CH3", 13 PA3-LPUART1_RX (io) "PA3/USART2_RX/ADC12_IN3/TIM2_CH4", 14 PA4 (io) "PA4/SPI1_NSS/USART2_CK/ADC12_IN4", 15 PA5-SPI1_SCK (io) "PA5/SPI1_SCK/ADC12_IN5", 16 PA6-SPI1_MISO (io) "PA6/SPI1_MISO/ADC12_IN6/TIM3_CH1/TIM1_BKIN", 17 PA7-SPI1_MOSI (io) "PA7/SPI1_MOSI/ADC12_IN7/TIM3_CH2/TIM1_CH1N", 18 PB0 (io) "PB0/ADC12_IN8/TIM3_CH3/TIM1_CH2N", 19 PB1 (io) "PB1/ADC12_IN9/TIM3_CH4/TIM1_CH3N", 20 PB2 (io) "PB2/BOOT1", 21 PB10 (io) "PB10/I2C2_SCL/USART3_TX/TIM2_CH3", 22 PB11 (io) "PB11/I2C2_SDA/USART3_RX/TIM2_CH4", 25 PB12 (io) "PB12/SPI2_NSS/I2C2_SMBAl/USART3_CK/TIM1_BKIN", 26 PB13 (io) "PB13/SPI2_SCK/USART3_CTS/TIM1_CH1N", 27 PB14 (io) "PB14/SPI2_MISO/USART3_RTS/TIM1_CH2N", 28 PB15 (io) "PB15/SPI2_MOSI/TIM1_CH3N", 29 PA8 (io) "PA8/USART1_CK/TIM1_CH1/MCO", 30 PA9-USART1_TX (io) "PA9/USART1_TX/TIM1_CH2", 31 PA10-USART1_RX (io) "PA10/USART1_RX/TIM1_CH3", 32 PA11 (io) "PA11/USART1_CTS/CANRX/USBDM/TIM1_CH4", 33 PA12 (io) "PA12/USART1_RTS/CANTX/USBDP/TIM1_ETR", 34 PA13 (io) "PA13/JTMS/SWDIO", 37 PA14 (io) "PA14/JTCK/SWCLK", 38 PA15 (io) "PA15/JTDI/TIM2_CH1_ETR/SPI1_NSS", 39 PB3 (io) "PB3/JTDO/TIM2_CH2/TRACESWO/SPI1_SCK", 40 PB4 (io) "PB4/NJTRST/TIM3_CH1/SPI1_MISO", 41 PB5 (io) "PB5/I2C1_SMBAI/TIM3_CH2/SPI1_MOSI", 42 I2C1_SCL-PB6 (io) "PB6/I2C1_SCL/TIM4_CH1/USART1_TX", 43 I2C1_SDA-PB7 (io) "PB7/I2C1_SDA/TIM4_CH2/USART1_RX", 44 BOOT0 (in), 45 PB8 (io) "PB8/TIM4_CH3/I2C1_SCL/CANRX", 46 PB9 (io) "PB9/TIM4_CH4/I2C1_SDA/CANTX"
part B pins: 1 VDD (power) "VBAT", 8 VSSA (power), 9 VDDA (power), 23 VSS_1 (power), 24 VDD_1 (power), 35 VSS_2 (power), 36 VDDIO_2 (power) "VDD_2", 47 VSS_3 (power), 48 VDD_3 (power)

## STM32L151CBT6A
designator DD?
Analog - STM32L071C8T6 / Микроконтроллер 32-Бит, Cortex-M3, 32МГц, 128КБ Flash, LCD, USB, ADC, DAC [LQFP-48]; PartNumber: STM32F103C8T6; A/D Converter: 2x12-bit (10 Channel); Core: ARM Cortex-M3; FLASH Size (Prog) (kB): 64; I/Os (High Current): 37; Internal RAM Size (kB): 20; Operating Frequency(F) (Processor speed) (MHz): 72; Packing: Tray; Supply Voltage(Vcc) min (V): 2; DatasheetVersion: Rev. 16; PackageVersion: Rev. 6, 06/2013; PackageReference: LQFP48; PackageDescription: 48-Pin Low Profile Quad Flat Package, 7 x 7 mm Body, 0.5 mm Pitch; Supplier 1: Digi-Key; Supplier Part Number 1: 497-6063-ND; Supplier 2: Farnell; Supplier Part Number 2: 1447637; Supplier 3: Newark; Supplier Part Number 3: 59M2182; Supplier 4: Newark; Supplier Part Number 4: 57P1222; Supplier 5: Mouser; Supplier Part Number 5: 511-STM32F103C8T6; Mounting Technology: Surface Mount; ComponentLink1Description: elitan; ComponentLink1URL: https://www.elitan.ru/price/item11268663; ComponentLink2Description: chipdip; ComponentLink2URL: https://www.chipdip.ru/product/stm32l151cbt6a-2
footprint LQFP48_L (QFP, 48-Leads, Body 7x7mm, Pitch 0.5mm, IPC High Density)
footprint LQFP48_M (QFP, 48-Leads, Body 7x7mm, Pitch 0.5mm, IPC Low Density)
footprint LQFP48_N (QFP, 48-Leads, Body 7x7mm, Pitch 0.5mm, IPC Medium Density)
part A pins: 2 PC13 (io) "PC13-TAMPER-RTC/PC13/TAMPER-RTC", 3 PC14-OSC32_IN (io) "PC14-OSC32_IN/PC14/OSC32_IN", 4 PC15-OSC32_OUT (io) "PC15-OSC32_OUT/PC15/OSC32_OUT", 5 PH0-OSC_IN (io) "PD0/OSC_IN", 6 PH1-OSC_OUT (io) "PD1/OSC_OUT", 7 NRST (io), 10 PA0-WKUP (io) "PA0-WKUP/PA0/WKUP/USART2_CTS/ADC12_IN0/TIM2_CH1_ETR", 11 PA1 (io) "PA1/USART2_RTS/ADC12_IN1/TIM2_CH2", 12 PA2-USART2_TX (io) "PA2/USART2_TX/ADC12_IN2/TIM2_CH3", 13 PA3-USART2_RX (io) "PA3/USART2_RX/ADC12_IN3/TIM2_CH4", 14 PA4 (io) "PA4/SPI1_NSS/USART2_CK/ADC12_IN4", 15 PA5-SPI1_SCK (io) "PA5/SPI1_SCK/ADC12_IN5", 16 PA6-SPI1_MISO (io) "PA6/SPI1_MISO/ADC12_IN6/TIM3_CH1/TIM1_BKIN", 17 PA7-SPI1_MOSI (io) "PA7/SPI1_MOSI/ADC12_IN7/TIM3_CH2/TIM1_CH1N", 18 PB0 (io) "PB0/ADC12_IN8/TIM3_CH3/TIM1_CH2N", 19 PB1 (io) "PB1/ADC12_IN9/TIM3_CH4/TIM1_CH3N", 20 PB2 (io) "PB2/BOOT1", 21 PB10 (io) "PB10/I2C2_SCL/USART3_TX/TIM2_CH3", 22 PB11 (io) "PB11/I2C2_SDA/USART3_RX/TIM2_CH4", 25 PB12 (io) "PB12/SPI2_NSS/I2C2_SMBAl/USART3_CK/TIM1_BKIN", 26 PB13 (io) "PB13/SPI2_SCK/USART3_CTS/TIM1_CH1N", 27 PB14 (io) "PB14/SPI2_MISO/USART3_RTS/TIM1_CH2N", 28 PB15 (io) "PB15/SPI2_MOSI/TIM1_CH3N", 29 PA8 (io) "PA8/USART1_CK/TIM1_CH1/MCO", 30 PA9-USART1_TX (io) "PA9/USART1_TX/TIM1_CH2", 31 PA10-USART1_RX (io) "PA10/USART1_RX/TIM1_CH3", 32 PA11 (io) "PA11/USART1_CTS/CANRX/USBDM/TIM1_CH4", 33 PA12 (io) "PA12/USART1_RTS/CANTX/USBDP/TIM1_ETR", 34 PA13 (io) "PA13/JTMS/SWDIO", 37 PA14 (io) "PA14/JTCK/SWCLK", 38 PA15 (io) "PA15/JTDI/TIM2_CH1_ETR/SPI1_NSS", 39 SWO-PB3 (io) "PB3/JTDO/TIM2_CH2/TRACESWO/SPI1_SCK", 40 PB4 (io) "PB4/NJTRST/TIM3_CH1/SPI1_MISO", 41 PB5 (io) "PB5/I2C1_SMBAI/TIM3_CH2/SPI1_MOSI", 42 I2C1_SCL-PB6 (io) "PB6/I2C1_SCL/TIM4_CH1/USART1_TX", 43 I2C1_SDA-PB7 (io) "PB7/I2C1_SDA/TIM4_CH2/USART1_RX", 44 BOOT0 (in), 45 PB8 (io) "PB8/TIM4_CH3/I2C1_SCL/CANRX", 46 PB9 (io) "PB9/TIM4_CH4/I2C1_SDA/CANTX"
part B pins: 1 VDD (power) "VBAT", 8 VSSA (power), 9 VDDA (power), 23 VSS_1 (power), 24 VDD_1 (power), 35 VSS_2 (power), 36 VDDIO_2 (power) "VDD_2", 47 VSS_3 (power), 48 VDD_3 (power)

## SY8009AAAC
designator D?
Step-down DC-DC regulator up to 1.5A/2A output currents. / voltage range from 3V to 5.5V
footprint SOT23-5
pins: 1 EN, 2 GND, 3 LX, 4 IN, 5 FB

## TDA2003
designator DA?
Amplifier IC 1-Channel _Mono_ Class AB 5-PENTAWATT; MF: STMicroelectronics; Availability: Unavailable; Price: None; Package: Pentawatt-5 Conrad; Value: *; SnapEDA_Link: https://www.snapeda.com/parts/TDA2003/STMicroelectronics/view-part/547840/?ref=snap; MP: TDA2003
footprint TO170P1040X480X2115-5
pins: 1 +IN (in), 2 -IN (in), 3 GND (power), 4 OUT (out), 5 VCC (power)

## TDA2003V
designator DA?
Amplifier IC 1-Channel _Mono_ Class AB 5-PENTAWATT 10W; MF: STMicroelectronics; Price: None; Availability: Unavailable; Package: Pentawatt-5 STMicroelectronics; MP: TDA2003V; Value: *; SnapEDA_Link: https://www.snapeda.com/parts/TDA2003V/STMicroelectronics/view-part/39407/?ref=snap; ComponentLink1Description: elitan; ComponentLink1URL: https://www.elitan.ru/price/item123031; ComponentLink2Description: chipdip; ComponentLink2URL: https://www.chipdip.ru/product/tda2003v?from=suggest_product
footprint TDA2003V (Pentawatt V)
footprint TDA2003V _HS-117-30 (ABM-161-30) (Pentawatt V)
pins: 1 +IN (in), 2 -IN (in), 3 GND (power), 4 OUT (out), 5 VCC (power)

## TECAP_A
designator C?
Tantalum pol cap type A
footprint TECAP_A
pins: 1 +, 2 -

## TECAP_B
designator C?
Tantalum pol cap type B
footprint TECAP_B
pins: 1 +, 2 -

## TECAP_C
designator C?
Tantalum pol cap type D
footprint TECAP_C
pins: 1 +, 2 -

## TECAP_D
designator C?
Tantalum pol cap type D
footprint TECAP_D
pins: 1 +, 2 -

## Test_point
designator TP?  (value not drawn)
Test point for PCB
footprint TEST_POINT
pins: 1

## TJA1042
designator D?
CAN Trasciever
footprint SOT96-1
pins: 1 TXD (out), 2 GND (power), 3 VCC (power), 4 RXD (io), 5 SPLIT (power), 6 CANL (io), 7 CANH (io), 8 ~{STB} (in)

## TP4056
designator DA?
Li-lon Battery Charger  1A Standalone Linear with Thermal Regulation in SOP-8; Manufacturer_Name: NanJing Top Power; Datasheet Link: https://dlnmh9ip6v2uc.cloudfront.net/datasheets/Prototyping/TP4056.pdf; Height: 1.75mm; Manufacturer_Part_Number: TP4056; ComponentLink1Description: elitan; ComponentLink1URL: https://www.elitan.ru/price/item26170288; ComponentLink2Description: electonshik; ComponentLink2URL: https://www.electronshik.ru/item/YOUTAI/TP4056
footprint SOIC127P600X175-9N
pins: 1 TEMP, 2 PROG, 3 GND, 4 VCC, 5 BAT, 6 ~{STDBY}, 7 ~{CHRG}, 8 CE, 9 EP

## TPS54360DDA
designator DA?
DC-DC преобразователь ADJ 3.5А STP-DN
footprint TPS54360
pins: 1 BOOT, 2 VIN, 3 EN, 4 RT/CLK, 5 FB, 6 COMP, 7 GND, 8 SW, 9 PWRPD

## TXB0102
designator D?, comment TXB0102DCU
Voltage Level Translator Bidirectional 1 Circuit 2 Channel 100Mbps 8-VSSOP; MF: Texas Instruments; Package: VFSOP-8 Texas Instruments; Value: *; Price: None; MP: TXB0102; SnapEDA_Link: https://www.snapeda.com/parts/TXB0102/Texas%20Instruments/view-part/547662/?ref=snap; Availability: Unavailable; ComponentLink1Description: elitan; ComponentLink1URL: https://www.elitan.ru/price/item692394; ComponentLink2Description: chipdip; ComponentLink2URL: https://www.chipdip.ru/product0/8002872138?from=suggest_product; ComponentLink3Description: electronshik; ComponentLink3URL: https://www.electronshik.ru/item/TI/TXB0102DCUR
footprint SOP50P310X90-8N
pins: 1 B2 (io), 2 GND (power), 3 VCCA (power), 4 A2 (io), 5 A1 (io), 6 OE (in), 7 VCCB (power), 8 B1 (io)

## TXB0104PWR
designator D?
4-Bit Bidirectional Voltage-Level Shifter with Auto Direction Sensing and +/-15 kV ESD Protect 14-TSSOP -40 to 85; MF: Texas Instruments; Availability: Unavailable; Texas_Instruments-Purchase-URL: https://snapeda.com/shop?store=Texas+Instruments&id=1077120; Package: TSSOP-14 Texas Instruments; MP: TXB0104PWR; SnapEDA_Link: https://www.snapeda.com/parts/TXB0104PWR/Texas%20Instruments/view-part/1077120/?ref=snap; Value: *; Price: None; ComponentLink1Description: elitan; ComponentLink1URL: https://www.elitan.ru/price/item703962
footprint SOP65P640X120-14N
pins: 1 VCCA (power), 2 A1 (io), 3 A2 (io), 4 A3 (io), 5 A4 (io), 7 GND (power), 8 OE (io), 10 B4 (io), 11 B3 (io), 12 B2 (io), 13 B1 (io), 14 VCCB (power)

## TXB0108PWR
designator D?
8-Bit Bidirectional Voltage-Level Shifter with Auto Direction Sensing and +/-15-kV ESD Protect 20-TSSOP -40 to 85; MF: Texas Instruments; Package: TSSOP-20 Texas Instruments; Value: *; Check_prices: https://www.snapeda.com/parts/TXB0108PWR/Texas%20Instruments/view-part/45111/?ref=eda; Purchase-URL: https://pricing.snapeda.com/search/part/TXB0108PWR/?ref=eda; Availability: Warning; SnapEDA_Link: https://www.snapeda.com/parts/TXB0108PWR/Texas%20Instruments/view-part/45111/?ref=snap; Price: None; MP: TXB0108PWR; ComponentLink1Description: chipdip; ComponentLink1URL: https://www.chipdip.ru/product/txb0108pwr-2?from=suggest_product; ComponentLink2Description: elitan; ComponentLink2URL: https://www.elitan.ru/price/item525750
footprint SOP65P640X120-20N
pins: 1 A1 (io), 2 VCCA (power), 3 A2 (io), 4 A3 (io), 5 A4 (io), 6 A5 (io), 7 A6 (io), 8 A7 (io), 9 A8 (io), 10 OE (in), 11 GND (power), 12 B8 (io), 13 B7 (io), 14 B6 (io), 15 B5 (io), 16 B4 (io), 17 B3 (io), 18 B2 (io), 19 VCCB (power), 20 B1 (io)

## TXS0104EPWR
designator D?
4-Bit BibirectionalL voltage-level translator / for OPEN-DRAIN and PUSH-PULL apps. / Maximum data rates (24Mbps (push pull), 2Mbps (open drain)) / 1.65 to 3.6V on A port and 2.3 to 5.5V on B port (VCCA <= VCCB); MP: TXB0104PWR; MF: Texas Instruments; Availability: Unavailable; Texas_Instruments-Purchase-URL: https://snapeda.com/shop?store=Texas+Instruments&id=1077120; Package: TSSOP-14 Texas Instruments; SnapEDA_Link: https://www.snapeda.com/parts/TXB0104PWR/Texas%20Instruments/view-part/1077120/?ref=snap; Value: *; Price: None; ComponentLink1Description: chipdip; ComponentLink1URL: https://www.chipdip.ru/product0/8000656895; ComponentLink2Description: elitan; ComponentLink2URL: https://www.elitan.ru/price/item703955; ComponentLink3Description: electronshik; ComponentLink3URL: https://www.electronshik.ru/item/TI/TXS0104EPWR
footprint SOP65P640X120-14N
pins: 1 VCCA (power), 2 A1 (io), 3 A2 (io), 4 A3 (io), 5 A4 (io), 7 GND (power), 8 OE (io), 10 B4 (io), 11 B3 (io), 12 B2 (io), 13 B1 (io), 14 VCCB (power)

## U_FL-R-SMT-1_10
designator X?
Разъем РЧ / 50 Ом Коаксиальный, UFL Коаксиальный, Прямое Гнездо, Вертикальный Поверхностный Монтаж SMT; ComponentLink1Description: elitan; ComponentLink1URL: https://www.elitan.ru/price/item1203541; ComponentLink2Description: chipdip; ComponentLink2URL: https://www.chipdip.ru/product0/9000586248?from=suggest_product
footprint HIROSE_0_MFG
pins: 1 SIG (io), 2 GND (power), 3 GND (power)

## USB A
designator X?, comment 292304-5
Conn USB 2.0 Type B RCP 4 POS 2.5mm Solder RA Thru-Hole 4 Terminal 1 Port Tray
footprint 292304-5 (USB typeA)
pins: 1, 2, 3, 4, 5 SHIELD, 6 SHIELD

## VS-30BQ040
designator VD?
Schottky Diode SMT, 40V, 4A, 2-Pin DO-214AB
footprint DO214AB SMC
pins: 1 POS, 2 NEG

## WSC45272R000FEA
designator R?
SMD чип резистор, с проволочной обмоткой, 4527, 2 Ом, Серия WSC, 2 Вт; ComponentLink1Description: chipdip; ComponentLink1URL: https://www.chipdip.ru/product/wsc45272r000fea?from=suggest_product; ComponentLink2Description: elitan; ComponentLink2URL: https://www.elitan.ru/price/item572273
footprint R_SMD4527
pins: 1 CCW, 2 CW

## КР142ЕН5А
designator DA?
Cтабилизатор напряжения положительной полярности с выходным / напряжением 5 В
footprint TO-220-short
pins: 1 VIN (in), 2 GND (in), 3 VOUT (out)